# EAGLE library part ADL5386 (library analogdevices-modulators)
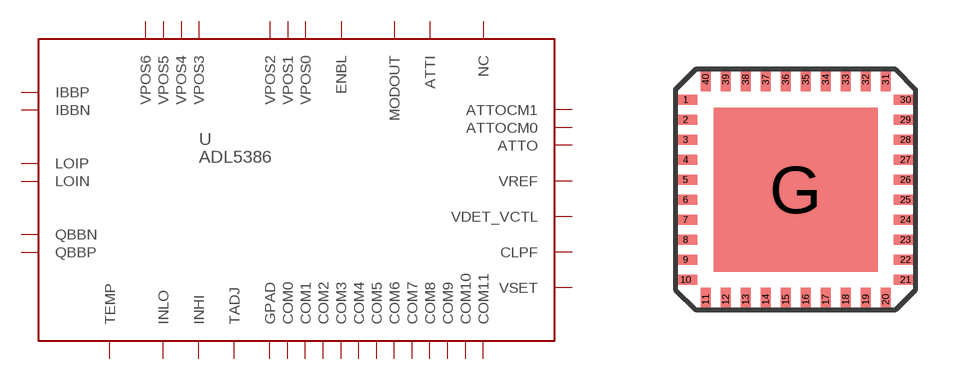
[diagram p0: symbol with the pads of LFCSP_VQ-40; footprint LFCSP_VQ-40]

Designator prefix -

## ADL5386  [LFCSP_VQ-40]
1  INLO
2  INHI
3  VSET
4  CLPF
5  COM0
6  VREF
7  VDET_VCTL
8  TEMP
9  NC
10  MODOUT
11  COM1
12  ATTI
13  COM2
14  ATTOCM0
15  COM3
16  COM4
17  ATTOCM1
18  COM5
19  COM6
20  ATTO
21  VPOS0
22  VPOS1
23  VPOS2
24  ENBL
25  IBBP
26  IBBN
27  COM7
28  COM8
29  QBBN
30  QBBP
31  COM9
32  COM10
33  LOIP
34  LOIN
35  VPOS3
36  VPOS4
37  VPOS5
38  VPOS6
39  TADJ
40  COM11
G  GPAD

## Footprint LFCSP_VQ-40 (pad centres in mm)
smd 0.6 x 0.25: 1 -2.75,2.25; 2 -2.75,1.75; 3 -2.75,1.25; 4 -2.75,0.75; 5 -2.75,0.25; 6 -2.75,-0.25; 7 -2.75,-0.75; 8 -2.75,-1.25; 9 -2.75,-1.75; 10 -2.75,-2.25; 21 2.75,-2.25; 22 2.75,-1.75; 23 2.75,-1.25; 24 2.75,-0.75; 25 2.75,-0.25; 26 2.75,0.25; 27 2.75,0.75; 28 2.75,1.25; 29 2.75,1.75; 30 2.75,2.25
smd 0.25 x 0.6: 11 -2.25,-2.75; 12 -1.75,-2.75; 13 -1.25,-2.75; 14 -0.75,-2.75; 15 -0.25,-2.75; 16 0.25,-2.75; 17 0.75,-2.75; 18 1.25,-2.75; 19 1.75,-2.75; 20 2.25,-2.75; 31 2.25,2.75; 32 1.75,2.75; 33 1.25,2.75; 34 0.75,2.75; 35 0.25,2.75; 36 -0.25,2.75; 37 -0.75,2.75; 38 -1.25,2.75; 39 -1.75,2.75; 40 -2.25,2.75
smd 4.1 x 4.1: G 0,0